# EAGLE library part 2590 (library Adafruit Metro Mini 2590)
Development Boards & Kits - AVR Adafruit Metro Mini 328 - 5V 16MHz Source: Datasheet <https://www.adafruit.com/product/2590>
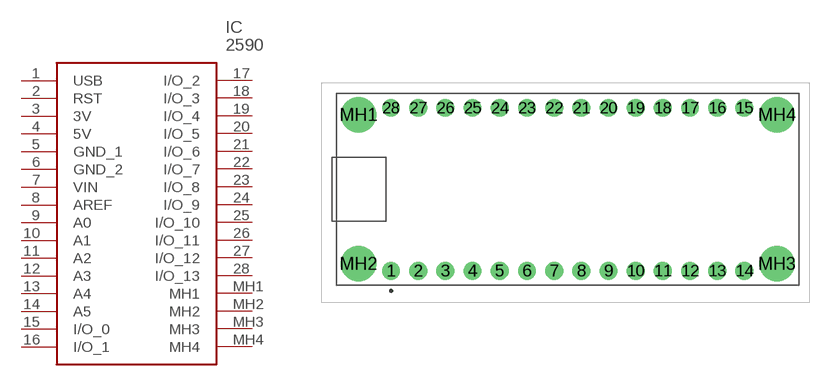
[diagram p0: symbol with the pads of 2590; footprint 2590]

Designator prefix IC

## 2590 (Allied_Number: 70929194; Allied_Price-Stock: https://www.alliedelec.com/adafruit-industries-2590/70929194/; Description: Development Boards & Kits - AVR Adafruit Metro Mini 328 - 5V 16MHz; Height: 4mm; Manufacturer_Name: Adafruit; Manufacturer_Part_Number: 2590; Mouser_Part_Number: 485-2590; Mouser_Price-Stock: https://www.mouser.com/Search/Refine.aspx?Keyword=485-2590; RS_Part_Number: 1245512; RS_Price-Stock: http://uk.rs-online.com/web/p/products/1245512)  [2590]
1  USB
2  RST
3  3V
4  5V
5  GND_1
6  GND_2
7  VIN
8  AREF
9  A0
10  A1
11  A2
12  A3
13  A4
14  A5
15  I/O_0
16  I/O_1
17  I/O_2
18  I/O_3
19  I/O_4
20  I/O_5
21  I/O_6
22  I/O_7
23  I/O_8
24  I/O_9
25  I/O_10
26  I/O_11
27  I/O_12
28  I/O_13
MH1  MH1
MH2  MH2
MH3  MH3
MH4  MH4

## Footprint 2590 (pad centres in mm)
Adafruit Metro Mini
drill 1.11 pad 1.665: 1 -16.51,-7.62; 2 -13.97,-7.62; 3 -11.43,-7.62; 4 -8.89,-7.62; 5 -6.35,-7.62; 6 -3.81,-7.62; 7 -1.27,-7.62; 8 1.27,-7.62; 9 3.81,-7.62; 10 6.35,-7.62; 11 8.89,-7.62; 12 11.43,-7.62; 13 13.97,-7.62; 14 16.51,-7.62; 15 16.51,7.62; 16 13.97,7.62; 17 11.43,7.62; 18 8.89,7.62; 19 6.35,7.62; 20 3.81,7.62; 21 1.27,7.62; 22 -1.27,7.62; 23 -3.81,7.62; 24 -6.35,7.62; 25 -8.89,7.62; 26 -11.43,7.62; 27 -13.97,7.62; 28 -16.51,7.62
drill 2.2 pad 3.3: MH1 -19.558,6.968; MH2 -19.558,-6.968; MH3 19.558,-6.968; MH4 19.558,6.968